# Altium footprint library Crystals.PcbLib: 7 footprints
Each footprint in its own frame and in the unit in brackets; x right, y up, seen from the top. Pads: shape width x height; smd on the part's side, far side on the other; paste and mask are expansions set on the pad; w line width, h text height; cw(c..) or ccw(c..) is an arc to the next point about the centre after c.
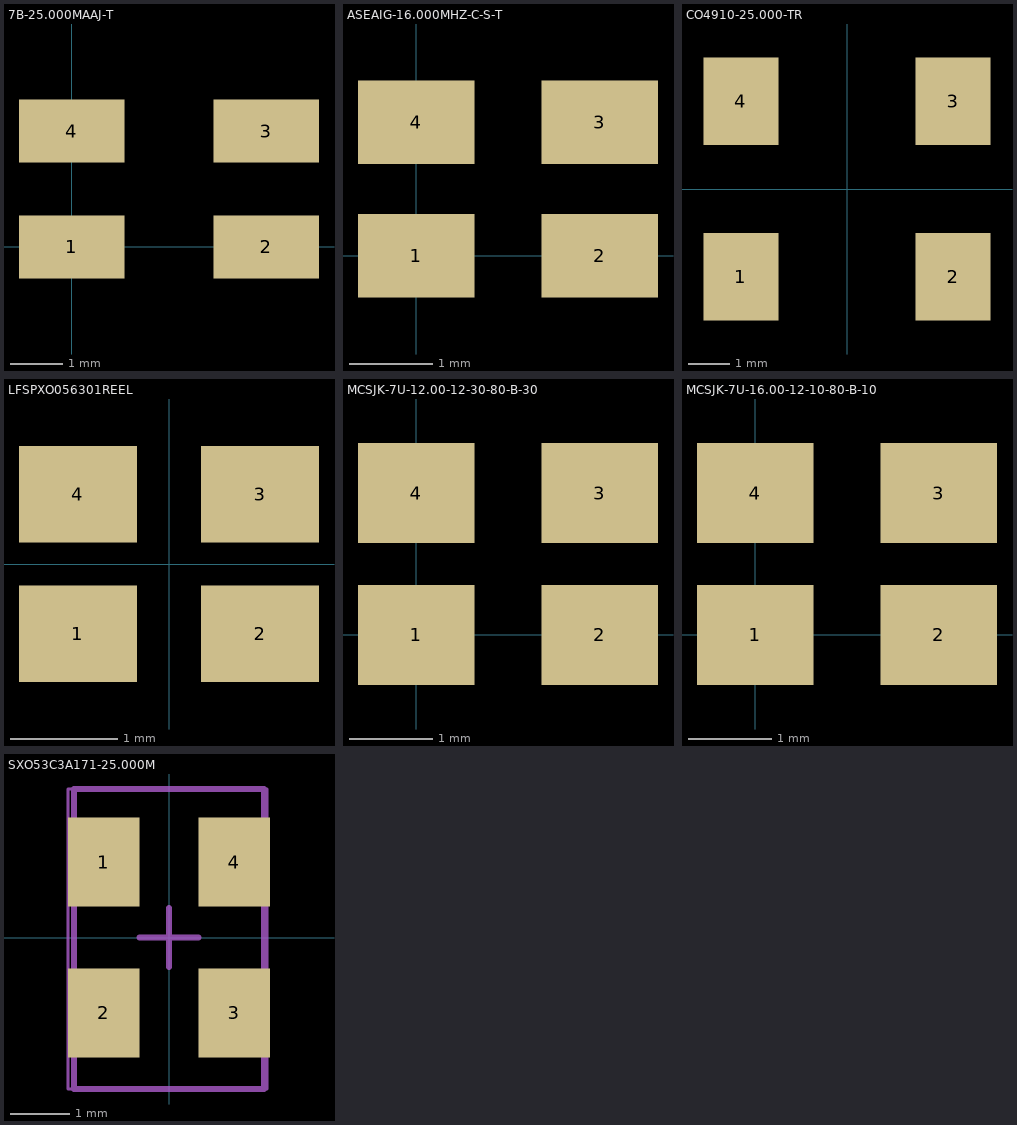
[diagram p0: the footprints below, top view; thin cyan lines are the x and y axes]

## 7B-25.000MAAJ-T [mm]
pads (4):
  rect 2x1.2 smd: 1(0,0) 2(3.7,0) 3(3.7,2.2) 4(0,2.2)
3D body "User Library-7C_TXC.step": height 1.2, standoff 0, extent -0.65,-0.5 4.35,2.7

## ASEAIG-16.000MHZ-C-S-T [mm]
pads (4):
  rect 1.4x1 smd: 1(0,0) 2(2.2,0) 3(2.2,1.6) 4(0,1.6)
3D body "User Library-ASE_series _ABRACON.step": height 1.2, standoff 0, extent -0.5,-0.4 2.7,2.1

## CO4910-25.000-TR [mm]
pads (4):
  rect 1.8x2.1 smd: 1(-2.54,-2.1) 2(2.54,-2.1) 3(2.54,2.1) 4(-2.54,2.1)
3D body "User Library-ASV-Oscil.STEP": height 1.8, standoff 0, extent -3.5,-2.53 3.5,2.55

## LFSPXO056301REEL [mm]
pads (4):
  rect 1.1x0.9 smd: 1(-0.85,-0.65) 2(0.85,-0.65) 3(0.85,0.65) 4(-0.85,0.65)
3D body "User Library-ASTXR_12.step": height 0.8, standoff 0, extent -1.25,-1 1.25,1

## MCSJK-7U-12.00-12-30-80-B-30 [mm]
pads (4):
  rect 1.4x1.2 smd: 1(0,0) 2(2.2,0) 3(2.2,1.7) 4(0,1.7)
3D body "User Library-ASE_series _ABRACON.step": height 1.2, standoff 0, extent -0.5,-0.4 2.7,2.1

## MCSJK-7U-16.00-12-10-80-B-10 [mm]
pads (4):
  rect 1.4x1.2 smd: 1(0,0) 2(2.2,0) 3(2.2,1.7) 4(0,1.7)
3D body "User Library-ASE_series _ABRACON.step": height 1.2, standoff 0, extent -0.5,-0.4 2.7,2.1

## SXO53C3A171-25.000M [mm]
pads (4):
  rect 1.2x1.5 smd: 1(-1.1,1.27) 2(-1.1,-1.27) 3(1.1,-1.27) 4(1.1,1.27)
Top Assembly:
  lines w0.1: -1.6,-2.55 -1.6,2.5 ; -1.6,-2.55 1.6,-2.55 ; -1.6,-2.55 -1.6,2.5 ; -1.6,-2.55 1.6,-2.55 ; -1.6,2.5 1.6,2.5 ; -1.6,2.5 1.6,2.5 ; 1.6,-2.55 1.6,2.5 ; 1.6,-2.55 1.6,2.5
Top Placement:
  lines w0.05: -1.7,-2.55 1.65,-2.55 1.65,2.5 -1.7,2.5 -1.7,-2.55
  lines w0.1: -0.5,0 0.5,0 ; 0,-0.5 0,0.5
3D body "User Library-7C_TXC.step": height 1.2, standoff 0, extent -1.6,-2.52 1.6,2.48